# Altium schematic symbol library 摇杆.SchLib: 1 symbol
Pins are listed as number, name and electrical type; pins without a type are passive.

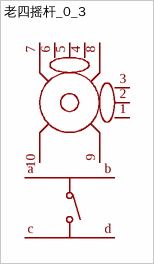
[diagram p0: symbol 老四摇杆_0_3]

## 老四摇杆_0_3
designator SW??, comment THB001P  (value not drawn)
Manufacturer: C&K; Add into BOM: yes; Symbol: THB001P; Device: THB001P; LCSC Part Name: 微型指拨摇杆开关; Supplier Part: C2685355; Manufacturer Part: THB001P; Supplier Footprint: 插件-14P,17x21mm; JLCPCB Part Class: Extended Part; Datasheet: https://atta.szlcsc.com/upload/public/pdf/source/20210114/C2685355_98E98C84804317E8B305B6FAD3A93D12.pdf; Supplier: LCSC; Convert to PCB: yes
footprint 老四摇杆_0_3
pins: 1 B, 2 DTA, 3 A, 4 A, 5 DTA, 6 B, 7 GND, 8 GND, 9 GND, 10 GND, a, b, c, d